# EAGLE library part BQ34Z100 (library MinotaurParts)
Battery fuel guage IC for lithium lion batteries
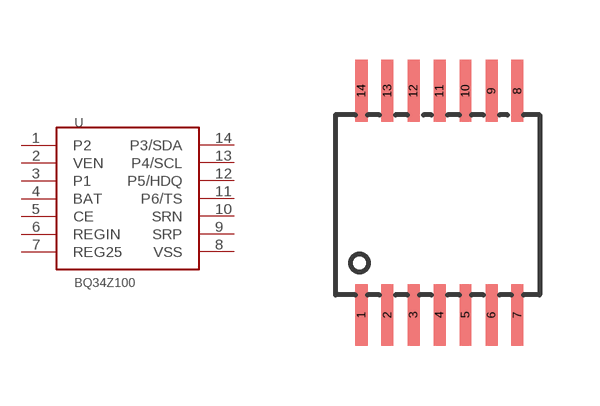
[diagram p4: symbol with the pads of SSOP-14; footprint SSOP-14]

Designator prefix -

## BQ34Z100  [SSOP-14]
1  P2
2  VEN
3  P1
4  BAT
5  CE
6  REGIN
7  REG25
8  VSS
9  SRP
10  SRN
11  P6/TS
12  P5/HDQ
13  P4/SCL
14  P3/SDA

## Footprint SSOP-14 (pad centres in mm)
smd 0.3 x 1.55: 1 -1.95,-2.8; 2 -1.3,-2.8; 3 -0.65,-2.8; 4 0,-2.8; 5 0.65,-2.8; 6 1.3,-2.8; 7 1.95,-2.8; 8 1.95,2.8; 9 1.3,2.8; 10 0.65,2.8; 11 0,2.8; 12 -0.65,2.8; 13 -1.3,2.8; 14 -1.95,2.8